# Altium schematic symbol library Microcontrollers.SchLib: 10 symbols
Pins are listed as number, name and electrical type; pins without a type are passive.

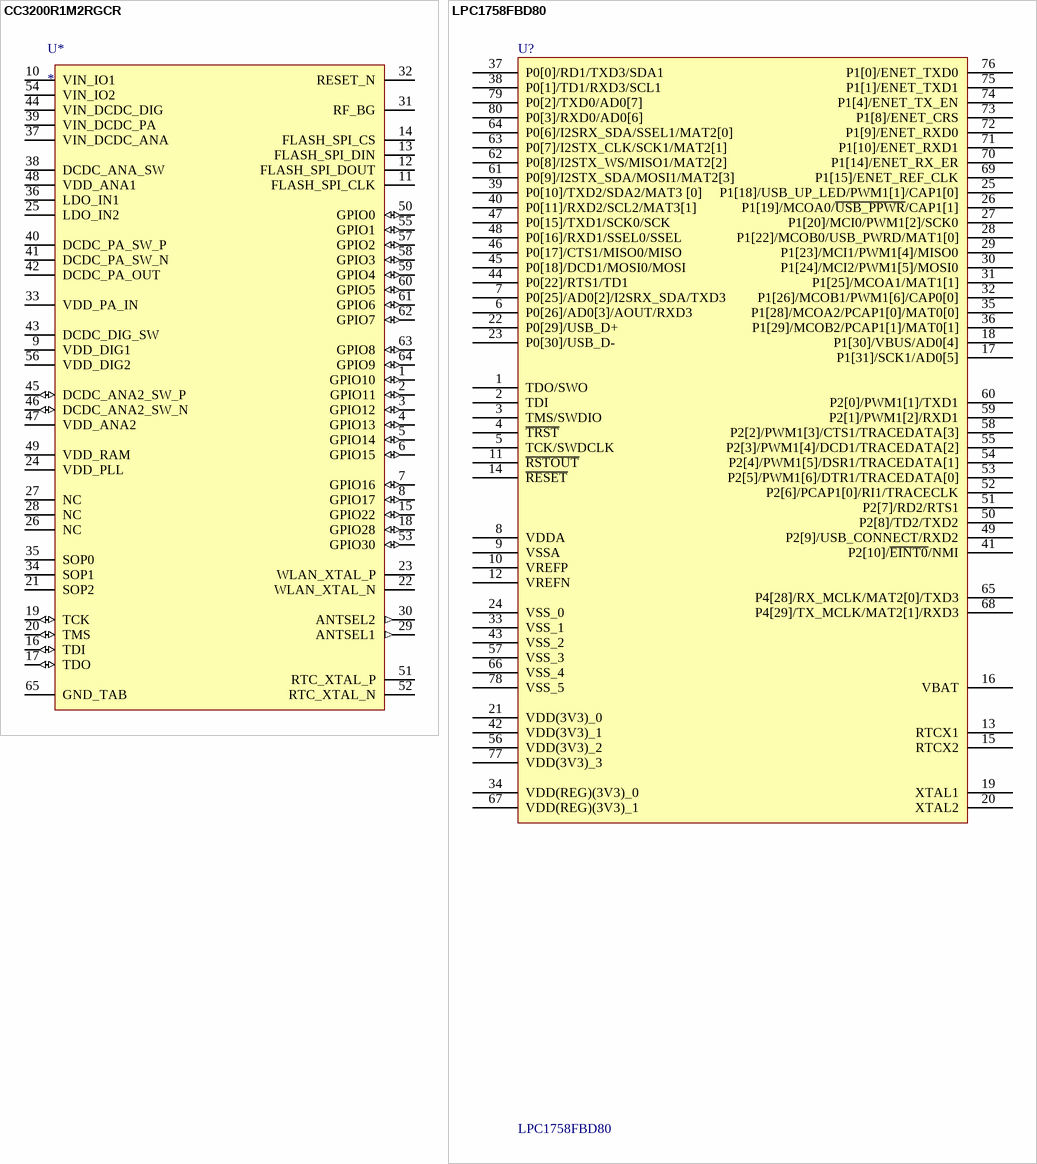
[diagram p0: symbols CC3200R1M2RGCR to LPC1758FBD80]

## CC3200R1M2RGCR
designator U*
CC3200R1M2RGCR
footprint VQFN64
pins: 1 GPIO10 (io), 2 GPIO11 (io), 3 GPIO12 (io), 4 GPIO13 (io), 5 GPIO14 (io), 6 GPIO15 (io), 7 GPIO16 (io), 8 GPIO17 (io), 9 VDD_DIG1 (power), 10 VIN_IO1 (power), 11 FLASH_SPI_CLK, 12 FLASH_SPI_DOUT, 13 FLASH_SPI_DIN, 14 FLASH_SPI_CS, 15 GPIO22 (io), 16 TDI (io), 17 TDO (io), 18 GPIO28 (io), 19 TCK (io), 20 TMS (io), 21 SOP2, 22 WLAN_XTAL_N, 23 WLAN_XTAL_P, 24 VDD_PLL (power), 25 LDO_IN2 (power), 26 NC, 27 NC, 28 NC, 29 ANTSEL1 (out), 30 ANTSEL2 (out), 31 RF_BG, 32 RESET_N, 33 VDD_PA_IN (power), 34 SOP1, 35 SOP0, 36 LDO_IN1 (power), 37 VIN_DCDC_ANA (power), 38 DCDC_ANA_SW (power), 39 VIN_DCDC_PA (power), 40 DCDC_PA_SW_P (power), 41 DCDC_PA_SW_N (power), 42 DCDC_PA_OUT (power), 43 DCDC_DIG_SW (power), 44 VIN_DCDC_DIG (power), 45 DCDC_ANA2_SW_P (io), 46 DCDC_ANA2_SW_N (io), 47 VDD_ANA2 (power), 48 VDD_ANA1 (power), 49 VDD_RAM (power), 50 GPIO0 (io), 51 RTC_XTAL_P, 52 RTC_XTAL_N, 53 GPIO30 (io), 54 VIN_IO2 (power), 55 GPIO1 (io), 56 VDD_DIG2 (power), 57 GPIO2 (io), 58 GPIO3 (io), 59 GPIO4 (io), 60 GPIO5 (io), 61 GPIO6 (io), 62 GPIO7 (io), 63 GPIO8 (io), 64 GPIO9 (io), 65 GND_TAB (power)

## LPC1758FBD80
designator U?
ARM Cortex M3,LQFP80 Footprint; Supplier 1: Digi-Key
footprint LQFP80 (12X12X05P)
footprint LPC1758-M2 (LPC1758 Module)
footprint LPC1758-M3 (LPC1758 Module)
pins: 1 TDO/SWO, 2 TDI, 3 TMS/SWDIO, 4 ~{TRST}, 5 TCK/SWDCLK, 6 P0[26]/AD0[3]/AOUT/RXD3, 7 P0[25]/AD0[2]/I2SRX_SDA/TXD3, 8 VDDA, 9 VSSA, 10 VREFP, 11 ~{RSTOUT}, 12 VREFN, 13 RTCX1, 14 ~{RESET}, 15 RTCX2, 16 VBAT, 17 P1[31]/SCK1/AD0[5], 18 P1[30]/VBUS/AD0[4], 19 XTAL1, 20 XTAL2, 21 VDD(3V3)_0, 22 P0[29]/USB_D+, 23 P0[30]/USB_D-, 24 VSS_0, 25 P1[18]/USB_UP_LED/PWM1[1]/CAP1[0], 26 P1[19]/MCOA0/~{USB_PPWR}/CAP1[1], 27 P1[20]/MCI0/PWM1[2]/SCK0, 28 P1[22]/MCOB0/USB_PWRD/MAT1[0], 29 P1[23]/MCI1/PWM1[4]/MISO0, 30 P1[24]/MCI2/PWM1[5]/MOSI0, 31 P1[25]/MCOA1/MAT1[1], 32 P1[26]/MCOB1/PWM1[6]/CAP0[0], 33 VSS_1, 34 VDD(REG)(3V3)_0, 35 P1[28]/MCOA2/PCAP1[0]/MAT0[0], 36 P1[29]/MCOB2/PCAP1[1]/MAT0[1], 37 P0[0]/RD1/TXD3/SDA1, 38 P0[1]/TD1/RXD3/SCL1, 39 P0[10]/TXD2/SDA2/MAT3 [0], 40 P0[11]/RXD2/SCL2/MAT3[1], 41 P2[10]/~{EINT0}/NMI, 42 VDD(3V3)_1, 43 VSS_2, 44 P0[22]/RTS1/TD1, 45 P0[18]/DCD1/MOSI0/MOSI, 46 P0[17]/CTS1/MISO0/MISO, 47 P0[15]/TXD1/SCK0/SCK, 48 P0[16]/RXD1/SSEL0/SSEL, 49 P2[9]/USB_CONNECT/RXD2, 50 P2[8]/TD2/TXD2, 51 P2[7]/RD2/RTS1, 52 P2[6]/PCAP1[0]/RI1/TRACECLK, 53 P2[5]/PWM1[6]/DTR1/TRACEDATA[0], 54 P2[4]/PWM1[5]/DSR1/TRACEDATA[1], 55 P2[3]/PWM1[4]/DCD1/TRACEDATA[2], 56 VDD(3V3)_2, 57 VSS_3, 58 P2[2]/PWM1[3]/CTS1/TRACEDATA[3], 59 P2[1]/PWM1[2]/RXD1, 60 P2[0]/PWM1[1]/TXD1, 61 P0[9]/I2STX_SDA/MOSI1/MAT2[3], 62 P0[8]/I2STX_WS/MISO1/MAT2[2], 63 P0[7]/I2STX_CLK/SCK1/MAT2[1], 64 P0[6]/I2SRX_SDA/SSEL1/MAT2[0], 65 P4[28]/RX_MCLK/MAT2[0]/TXD3, 66 VSS_4, 67 VDD(REG)(3V3)_1, 68 P4[29]/TX_MCLK/MAT2[1]/RXD3, 69 P1[15]/ENET_REF_CLK, 70 P1[14]/ENET_RX_ER, 71 P1[10]/ENET_RXD1, 72 P1[9]/ENET_RXD0, 73 P1[8]/ENET_CRS, 74 P1[4]/ENET_TX_EN, 75 P1[1]/ENET_TXD1, 76 P1[0]/ENET_TXD0, 77 VDD(3V3)_3, 78 VSS_5, 79 P0[2]/TXD0/AD0[7], 80 P0[3]/RXD0/AD0[6]

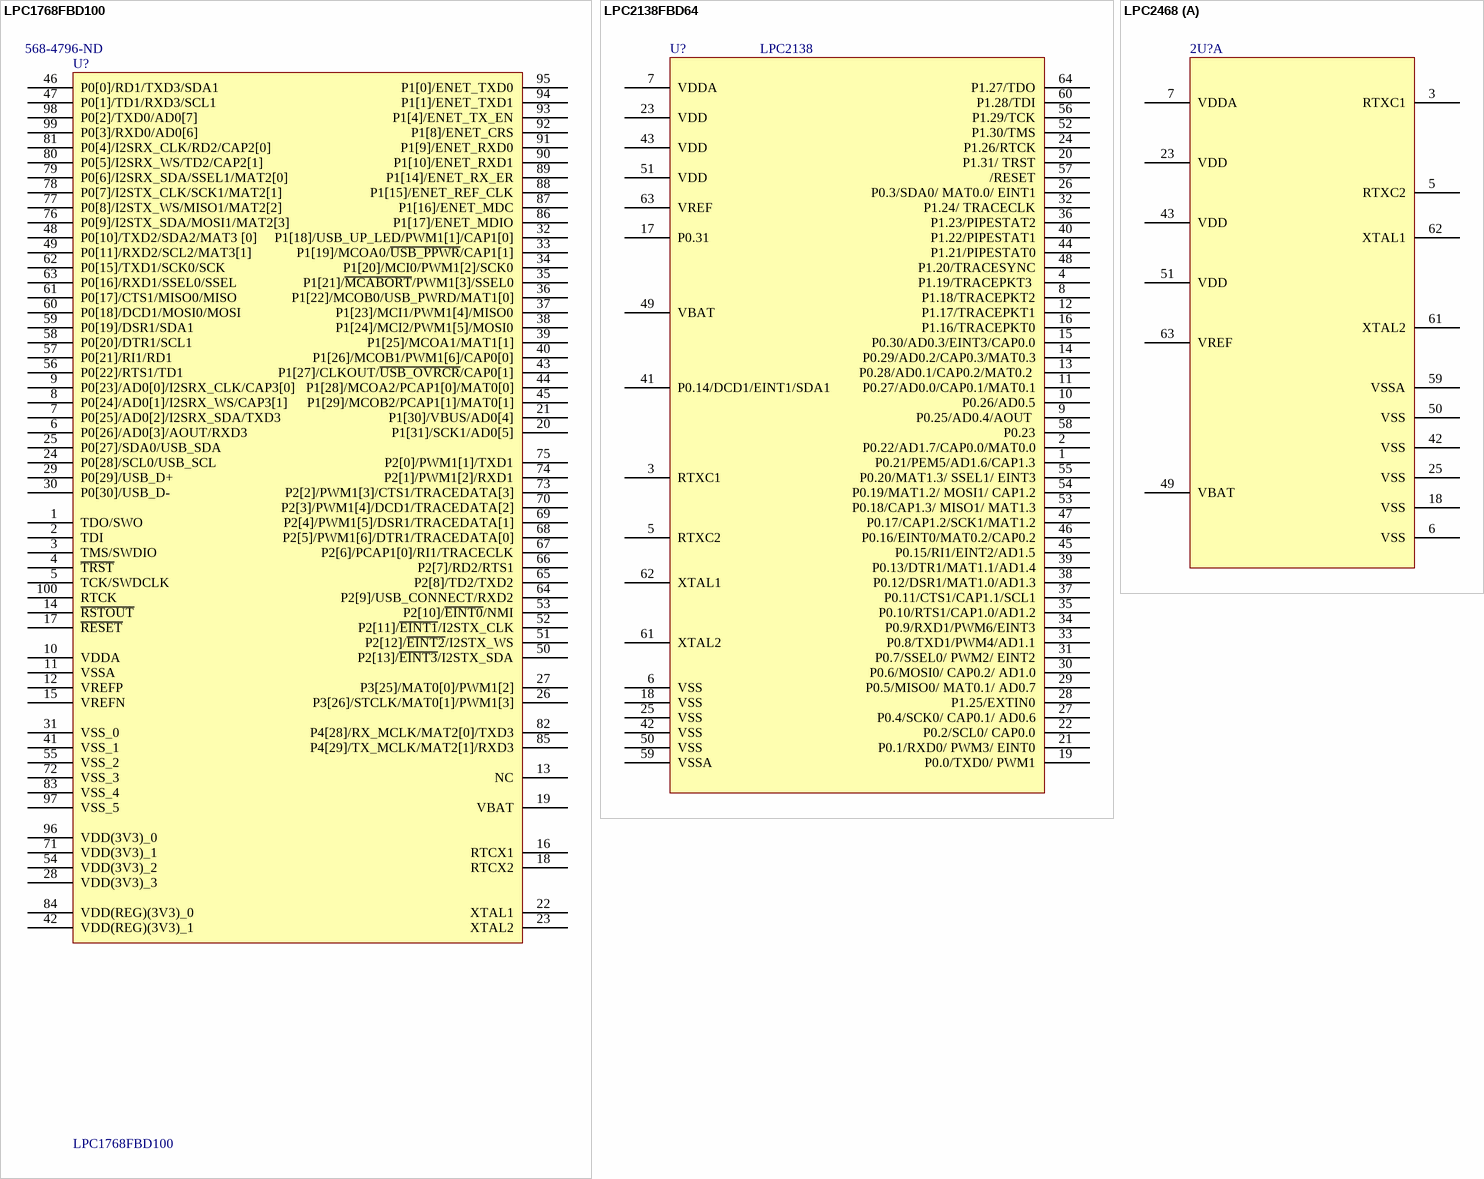
[diagram p1: symbols LPC1768FBD100 to LPC2468]

## LPC1768FBD100
designator U?  Supplier Part Number 1: 568-4796-ND
ARM Cortex M3,LQFP100 Footprint; Supplier 1: Digi-Key
footprint LQFP100 (LQFP100  LPC1768)
pins: 1 TDO/SWO, 2 TDI, 3 TMS/SWDIO, 4 ~{TRST}, 5 TCK/SWDCLK, 6 P0[26]/AD0[3]/AOUT/RXD3, 7 P0[25]/AD0[2]/I2SRX_SDA/TXD3, 8 P0[24]/AD0[1]/I2SRX_WS/CAP3[1], 9 P0[23]/AD0[0]/I2SRX_CLK/CAP3[0], 10 VDDA, 11 VSSA, 12 VREFP, 13 NC, 14 ~{RSTOUT}, 15 VREFN, 16 RTCX1, 17 ~{RESET}, 18 RTCX2, 19 VBAT, 20 P1[31]/SCK1/AD0[5], 21 P1[30]/VBUS/AD0[4], 22 XTAL1, 23 XTAL2, 24 P0[28]/SCL0/USB_SCL, 25 P0[27]/SDA0/USB_SDA, 26 P3[26]/STCLK/MAT0[1]/PWM1[3], 27 P3[25]/MAT0[0]/PWM1[2], 28 VDD(3V3)_3, 29 P0[29]/USB_D+, 30 P0[30]/USB_D-, 31 VSS_0, 32 P1[18]/USB_UP_LED/PWM1[1]/CAP1[0], 33 P1[19]/MCOA0/~{USB_PPWR}/CAP1[1], 34 P1[20]/MCI0/PWM1[2]/SCK0, 35 P1[21]/~{MCABORT}/PWM1[3]/SSEL0, 36 P1[22]/MCOB0/USB_PWRD/MAT1[0], 37 P1[23]/MCI1/PWM1[4]/MISO0, 38 P1[24]/MCI2/PWM1[5]/MOSI0, 39 P1[25]/MCOA1/MAT1[1], 40 P1[26]/MCOB1/PWM1[6]/CAP0[0], 41 VSS_1, 42 VDD(REG)(3V3)_1, 43 P1[27]/CLKOUT/~{USB_OVRCR}/CAP0[1], 44 P1[28]/MCOA2/PCAP1[0]/MAT0[0], 45 P1[29]/MCOB2/PCAP1[1]/MAT0[1], 46 P0[0]/RD1/TXD3/SDA1, 47 P0[1]/TD1/RXD3/SCL1, 48 P0[10]/TXD2/SDA2/MAT3 [0], 49 P0[11]/RXD2/SCL2/MAT3[1], 50 P2[13]/~{EINT3}/I2STX_SDA, 51 P2[12]/~{EINT2}/I2STX_WS, 52 P2[11]/~{EINT1}/I2STX_CLK, 53 P2[10]/~{EINT0}/NMI, 54 VDD(3V3)_2, 55 VSS_2, 56 P0[22]/RTS1/TD1, 57 P0[21]/RI1/RD1, 58 P0[20]/DTR1/SCL1, 59 P0[19]/DSR1/SDA1, 60 P0[18]/DCD1/MOSI0/MOSI, 61 P0[17]/CTS1/MISO0/MISO, 62 P0[15]/TXD1/SCK0/SCK, 63 P0[16]/RXD1/SSEL0/SSEL, 64 P2[9]/USB_CONNECT/RXD2, 65 P2[8]/TD2/TXD2, 66 P2[7]/RD2/RTS1, 67 P2[6]/PCAP1[0]/RI1/TRACECLK, 68 P2[5]/PWM1[6]/DTR1/TRACEDATA[0], 69 P2[4]/PWM1[5]/DSR1/TRACEDATA[1], 70 P2[3]/PWM1[4]/DCD1/TRACEDATA[2], 71 VDD(3V3)_1, 72 VSS_3, 73 P2[2]/PWM1[3]/CTS1/TRACEDATA[3], 74 P2[1]/PWM1[2]/RXD1, 75 P2[0]/PWM1[1]/TXD1, 76 P0[9]/I2STX_SDA/MOSI1/MAT2[3], 77 P0[8]/I2STX_WS/MISO1/MAT2[2], 78 P0[7]/I2STX_CLK/SCK1/MAT2[1], 79 P0[6]/I2SRX_SDA/SSEL1/MAT2[0], 80 P0[5]/I2SRX_WS/TD2/CAP2[1], 81 P0[4]/I2SRX_CLK/RD2/CAP2[0], 82 P4[28]/RX_MCLK/MAT2[0]/TXD3, 83 VSS_4, 84 VDD(REG)(3V3)_0, 85 P4[29]/TX_MCLK/MAT2[1]/RXD3, 86 P1[17]/ENET_MDIO, 87 P1[16]/ENET_MDC, 88 P1[15]/ENET_REF_CLK, 89 P1[14]/ENET_RX_ER, 90 P1[10]/ENET_RXD1, 91 P1[9]/ENET_RXD0, 92 P1[8]/ENET_CRS, 93 P1[4]/ENET_TX_EN, 94 P1[1]/ENET_TXD1, 95 P1[0]/ENET_TXD0, 96 VDD(3V3)_0, 97 VSS_5, 98 P0[2]/TXD0/AD0[7], 99 P0[3]/RXD0/AD0[6], 100 RTCK

## LPC2138FBD64
designator U?, comment LPC2138
pins: 1 P0.21/PEM5/AD1.6/CAP1.3, 2 P0.22/AD1.7/CAP0.0/MAT0.0, 3 RTXC1, 4 P1.19/TRACEPKT3 , 5 RTXC2, 6 VSS, 7 VDDA, 8 P1.18/TRACEPKT2, 9 P0.25/AD0.4/AOUT , 10 P0.26/AD0.5, 11 P0.27/AD0.0/CAP0.1/MAT0.1, 12 P1.17/TRACEPKT1, 13 P0.28/AD0.1/CAP0.2/MAT0.2 , 14 P0.29/AD0.2/CAP0.3/MAT0.3, 15 P0.30/AD0.3/EINT3/CAP0.0, 16 P1.16/TRACEPKT0, 17 P0.31, 18 VSS, 19 P0.0/TXD0/ PWM1, 20 P1.31/ TRST, 21 P0.1/RXD0/ PWM3/ EINT0, 22 P0.2/SCL0/ CAP0.0, 23 VDD, 24 P1.26/RTCK, 25 VSS, 26 P0.3/SDA0/ MAT0.0/ EINT1, 27 P0.4/SCK0/ CAP0.1/ AD0.6, 28 P1.25/EXTIN0, 29 P0.5/MISO0/ MAT0.1/ AD0.7, 30 P0.6/MOSI0/ CAP0.2/ AD1.0, 31 P0.7/SSEL0/ PWM2/ EINT2, 32 P1.24/ TRACECLK, 33 P0.8/TXD1/PWM4/AD1.1, 34 P0.9/RXD1/PWM6/EINT3, 35 P0.10/RTS1/CAP1.0/AD1.2, 36 P1.23/PIPESTAT2, 37 P0.11/CTS1/CAP1.1/SCL1, 38 P0.12/DSR1/MAT1.0/AD1.3, 39 P0.13/DTR1/MAT1.1/AD1.4, 40 P1.22/PIPESTAT1, 41 P0.14/DCD1/EINT1/SDA1, 42 VSS, 43 VDD, 44 P1.21/PIPESTAT0, 45 P0.15/RI1/EINT2/AD1.5, 46 P0.16/EINT0/MAT0.2/CAP0.2, 47 P0.17/CAP1.2/SCK1/MAT1.2, 48 P1.20/TRACESYNC, 49 VBAT, 50 VSS, 51 VDD, 52 P1.30/TMS, 53 P0.18/CAP1.3/ MISO1/ MAT1.3, 54 P0.19/MAT1.2/ MOSI1/ CAP1.2, 55 P0.20/MAT1.3/ SSEL1/ EINT3, 56 P1.29/TCK, 57 /RESET, 58 P0.23, 59 VSSA, 60 P1.28/TDI, 61 XTAL2, 62 XTAL1, 63 VREF, 64 P1.27/TDO

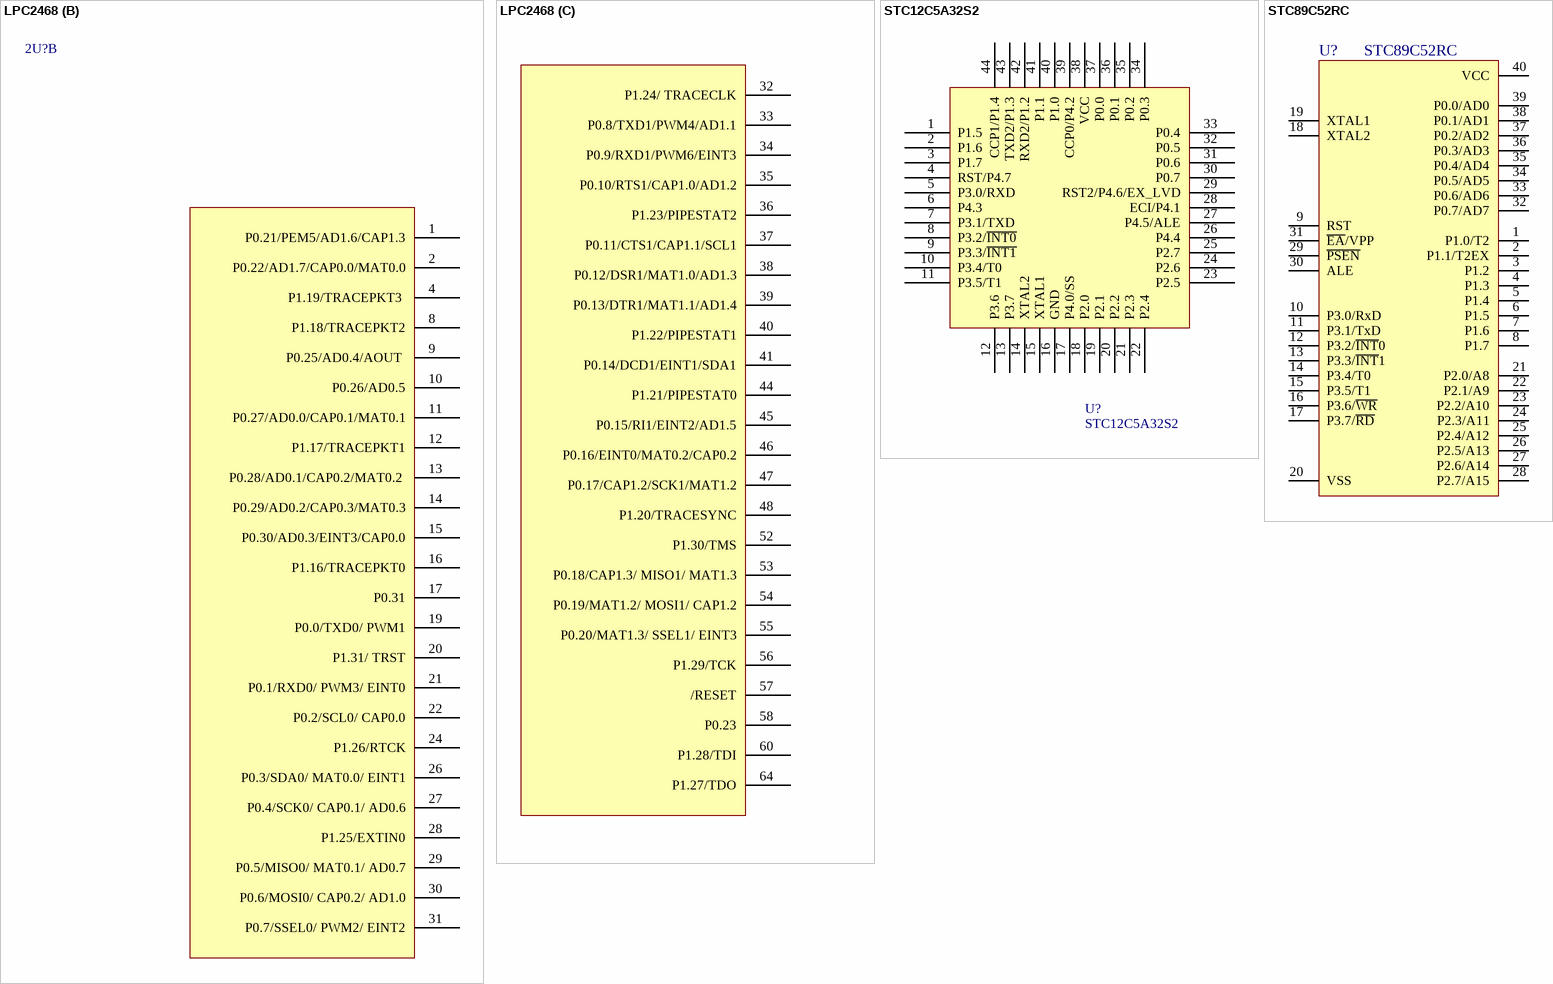
[diagram p2: symbols LPC2468 to STC89C52RC]

## LPC2468
designator 2U?, comment LPC2138  (value not drawn)
part A pins: 3 RTXC1, 5 RTXC2, 6 VSS, 7 VDDA, 18 VSS, 23 VDD, 25 VSS, 42 VSS, 43 VDD, 49 VBAT, 50 VSS, 51 VDD, 59 VSSA, 61 XTAL2, 62 XTAL1, 63 VREF
part B pins: 1 P0.21/PEM5/AD1.6/CAP1.3, 2 P0.22/AD1.7/CAP0.0/MAT0.0, 4 P1.19/TRACEPKT3 , 8 P1.18/TRACEPKT2, 9 P0.25/AD0.4/AOUT , 10 P0.26/AD0.5, 11 P0.27/AD0.0/CAP0.1/MAT0.1, 12 P1.17/TRACEPKT1, 13 P0.28/AD0.1/CAP0.2/MAT0.2 , 14 P0.29/AD0.2/CAP0.3/MAT0.3, 15 P0.30/AD0.3/EINT3/CAP0.0, 16 P1.16/TRACEPKT0, 17 P0.31, 19 P0.0/TXD0/ PWM1, 20 P1.31/ TRST, 21 P0.1/RXD0/ PWM3/ EINT0, 22 P0.2/SCL0/ CAP0.0, 24 P1.26/RTCK, 26 P0.3/SDA0/ MAT0.0/ EINT1, 27 P0.4/SCK0/ CAP0.1/ AD0.6, 28 P1.25/EXTIN0, 29 P0.5/MISO0/ MAT0.1/ AD0.7, 30 P0.6/MOSI0/ CAP0.2/ AD1.0, 31 P0.7/SSEL0/ PWM2/ EINT2
part C pins: 32 P1.24/ TRACECLK, 33 P0.8/TXD1/PWM4/AD1.1, 34 P0.9/RXD1/PWM6/EINT3, 35 P0.10/RTS1/CAP1.0/AD1.2, 36 P1.23/PIPESTAT2, 37 P0.11/CTS1/CAP1.1/SCL1, 38 P0.12/DSR1/MAT1.0/AD1.3, 39 P0.13/DTR1/MAT1.1/AD1.4, 40 P1.22/PIPESTAT1, 41 P0.14/DCD1/EINT1/SDA1, 44 P1.21/PIPESTAT0, 45 P0.15/RI1/EINT2/AD1.5, 46 P0.16/EINT0/MAT0.2/CAP0.2, 47 P0.17/CAP1.2/SCK1/MAT1.2, 48 P1.20/TRACESYNC, 52 P1.30/TMS, 53 P0.18/CAP1.3/ MISO1/ MAT1.3, 54 P0.19/MAT1.2/ MOSI1/ CAP1.2, 55 P0.20/MAT1.3/ SSEL1/ EINT3, 56 P1.29/TCK, 57 /RESET, 58 P0.23, 60 P1.28/TDI, 64 P1.27/TDO

## STC12C5A32S2
designator U?
footprint QFP44
pins: 1 P1.5, 2 P1.6, 3 P1.7, 4 RST/P4.7, 5 P3.0/RXD, 6 P4.3, 7 P3.1/TXD, 8 P3.2/~{INT0}, 9 P3.3/~{INT1}, 10 P3.4/T0, 11 P3.5/T1, 12 P3.6, 13 P3.7, 14 XTAL2, 15 XTAL1, 16 GND, 17 P4.0/SS, 18 P2.0, 19 P2.1, 20 P2.2, 21 P2.3, 22 P2.4, 23 P2.5, 24 P2.6, 25 P2.7, 26 P4.4, 27 P4.5/ALE, 28 ECI/P4.1, 29 RST2/P4.6/EX_LVD, 30 P0.7, 31 P0.6, 32 P0.5, 33 P0.4, 34 P0.3, 35 P0.2, 36 P0.1, 37 P0.0, 38 VCC, 39 CCP0/P4.2, 40 P1.0, 41 P1.1, 42 RXD2/P1.2, 43 TXD2/P1.3, 44 CCP1/P1.4

## STC89C52RC
designator U?
80C51 8-Bit Flash Microcontroller Family, 8 kB Flash; Published: 21-May-2003; DatasheetVersion: 5-Jun-2002; PackageVersion: Aug-2000; PackageReference: SOT129-1; Publisher: Altium Limited; PackageDescription: DIP, Plastic; 40 Leads; Row Spacing 15.24 mm; Pitch 2.54 mm; Code_JEDEC: MO-015; ComponentLink1Description: Manufacturer Link; ComponentLink1URL: http://www-us2.semiconductors.philips.com/; ComponentLink2Description: Datasheet; ComponentLink2URL: http://www.semiconductors.philips.com/acrobat/datasheets/P89C5XX2_2.pdf
footprint PDIP40
pins: 1 P1.0/T2, 2 P1.1/T2EX, 3 P1.2, 4 P1.3, 5 P1.4, 6 P1.5, 7 P1.6, 8 P1.7, 9 RST, 10 P3.0/RxD, 11 P3.1/TxD, 12 P3.2/~{INT}0, 13 P3.3/~{INT}1, 14 P3.4/T0, 15 P3.5/T1, 16 P3.6/~{WR}, 17 P3.7/~{RD}, 18 XTAL2, 19 XTAL1, 20 VSS (power), 21 P2.0/A8, 22 P2.1/A9, 23 P2.2/A10, 24 P2.3/A11, 25 P2.4/A12, 26 P2.5/A13, 27 P2.6/A14, 28 P2.7/A15, 29 ~{PSEN}, 30 ALE, 31 ~{EA}/VPP, 32 P0.7/AD7, 33 P0.6/AD6, 34 P0.5/AD5, 35 P0.4/AD4, 36 P0.3/AD3, 37 P0.2/AD2, 38 P0.1/AD1, 39 P0.0/AD0, 40 VCC (power)
2 alternate drawings of the same symbol

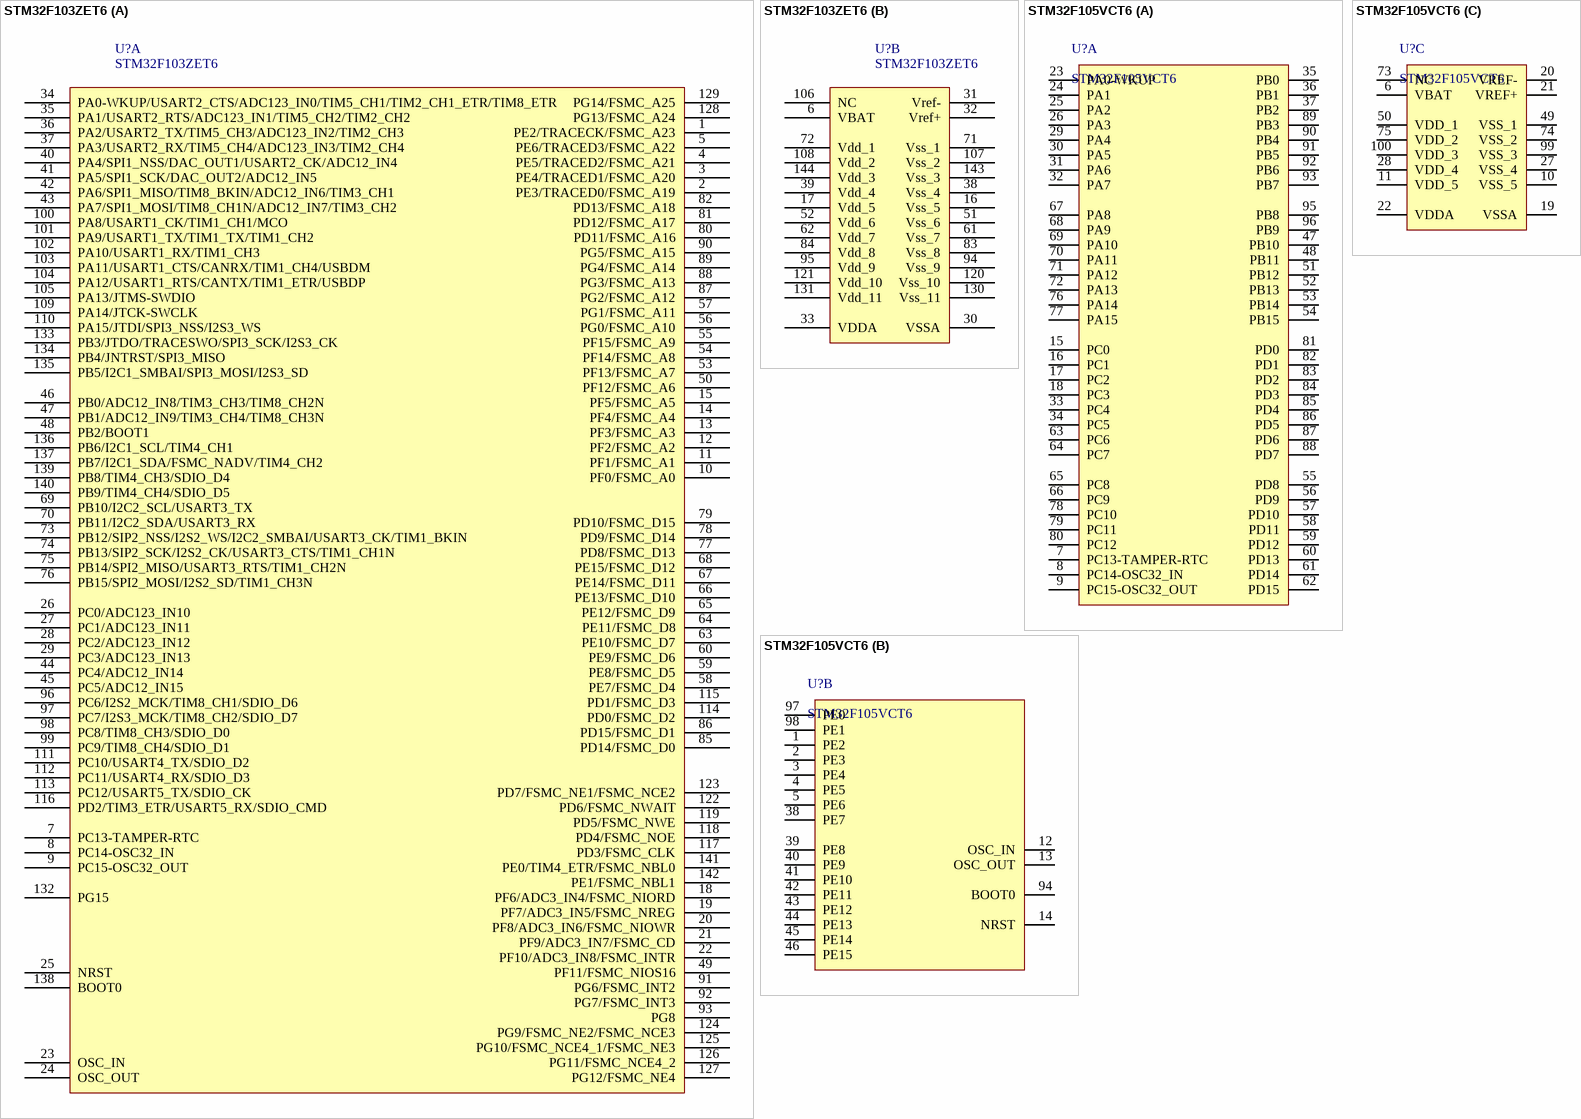
[diagram p3: symbols STM32F103ZET6 to STM32F105VCT6]

## STM32F103ZET6
designator U?
footprint LQFP144
footprint TQFP144_N (Thin QFP, 144-Leads, Body 20x20mm, Pitch 0.5mm, IPC Medium Density)
part A pins: 1 PE2/TRACECK/FSMC_A23, 2 PE3/TRACED0/FSMC_A19, 3 PE4/TRACED1/FSMC_A20, 4 PE5/TRACED2/FSMC_A21, 5 PE6/TRACED3/FSMC_A22, 7 PC13-TAMPER-RTC, 8 PC14-OSC32_IN, 9 PC15-OSC32_OUT, 10 PF0/FSMC_A0, 11 PF1/FSMC_A1, 12 PF2/FSMC_A2, 13 PF3/FSMC_A3, 14 PF4/FSMC_A4, 15 PF5/FSMC_A5, 18 PF6/ADC3_IN4/FSMC_NIORD, 19 PF7/ADC3_IN5/FSMC_NREG, 20 PF8/ADC3_IN6/FSMC_NIOWR, 21 PF9/ADC3_IN7/FSMC_CD, 22 PF10/ADC3_IN8/FSMC_INTR, 23 OSC_IN, 24 OSC_OUT, 25 NRST, 26 PC0/ADC123_IN10, 27 PC1/ADC123_IN11, 28 PC2/ADC123_IN12, 29 PC3/ADC123_IN13, 34 PA0-WKUP/USART2_CTS/ADC123_IN0/TIM5_CH1/TIM2_CH1_ETR/TIM8_ETR, 35 PA1/USART2_RTS/ADC123_IN1/TIM5_CH2/TIM2_CH2, 36 PA2/USART2_TX/TIM5_CH3/ADC123_IN2/TIM2_CH3, 37 PA3/USART2_RX/TIM5_CH4/ADC123_IN3/TIM2_CH4, 40 PA4/SPI1_NSS/DAC_OUT1/USART2_CK/ADC12_IN4, 41 PA5/SPI1_SCK/DAC_OUT2/ADC12_IN5, 42 PA6/SPI1_MISO/TIM8_BKIN/ADC12_IN6/TIM3_CH1, 43 PA7/SPI1_MOSI/TIM8_CH1N/ADC12_IN7/TIM3_CH2, 44 PC4/ADC12_IN14, 45 PC5/ADC12_IN15, 46 PB0/ADC12_IN8/TIM3_CH3/TIM8_CH2N, 47 PB1/ADC12_IN9/TIM3_CH4/TIM8_CH3N, 48 PB2/BOOT1, 49 PF11/FSMC_NIOS16, 50 PF12/FSMC_A6, 53 PF13/FSMC_A7, 54 PF14/FSMC_A8, 55 PF15/FSMC_A9, 56 PG0/FSMC_A10, 57 PG1/FSMC_A11, 58 PE7/FSMC_D4, 59 PE8/FSMC_D5, 60 PE9/FSMC_D6, 63 PE10/FSMC_D7, 64 PE11/FSMC_D8, 65 PE12/FSMC_D9, 66 PE13/FSMC_D10, 67 PE14/FSMC_D11, 68 PE15/FSMC_D12, 69 PB10/I2C2_SCL/USART3_TX, 70 PB11/I2C2_SDA/USART3_RX, 73 PB12/SIP2_NSS/I2S2_WS/I2C2_SMBAI/USART3_CK/TIM1_BKIN, 74 PB13/SIP2_SCK/I2S2_CK/USART3_CTS/TIM1_CH1N, 75 PB14/SPI2_MISO/USART3_RTS/TIM1_CH2N, 76 PB15/SPI2_MOSI/I2S2_SD/TIM1_CH3N, 77 PD8/FSMC_D13, 78 PD9/FSMC_D14, 79 PD10/FSMC_D15, 80 PD11/FSMC_A16, 81 PD12/FSMC_A17, 82 PD13/FSMC_A18, 85 PD14/FSMC_D0, 86 PD15/FSMC_D1, 87 PG2/FSMC_A12, 88 PG3/FSMC_A13, 89 PG4/FSMC_A14, 90 PG5/FSMC_A15, 91 PG6/FSMC_INT2, 92 PG7/FSMC_INT3, 93 PG8, 96 PC6/I2S2_MCK/TIM8_CH1/SDIO_D6, 97 PC7/I2S3_MCK/TIM8_CH2/SDIO_D7, 98 PC8/TIM8_CH3/SDIO_D0, 99 PC9/TIM8_CH4/SDIO_D1, 100 PA8/USART1_CK/TIM1_CH1/MCO, 101 PA9/USART1_TX/TIM1_TX/TIM1_CH2, 102 PA10/USART1_RX/TIM1_CH3, 103 PA11/USART1_CTS/CANRX/TIM1_CH4/USBDM, 104 PA12/USART1_RTS/CANTX/TIM1_ETR/USBDP, 105 PA13/JTMS-SWDIO, 109 PA14/JTCK-SWCLK, 110 PA15/JTDI/SPI3_NSS/I2S3_WS, 111 PC10/USART4_TX/SDIO_D2, 112 PC11/USART4_RX/SDIO_D3, 113 PC12/USART5_TX/SDIO_CK, 114 PD0/FSMC_D2, 115 PD1/FSMC_D3, 116 PD2/TIM3_ETR/USART5_RX/SDIO_CMD, 117 PD3/FSMC_CLK, 118 PD4/FSMC_NOE, 119 PD5/FSMC_NWE, 122 PD6/FSMC_NWAIT, 123 PD7/FSMC_NE1/FSMC_NCE2, 124 PG9/FSMC_NE2/FSMC_NCE3, 125 PG10/FSMC_NCE4_1/FSMC_NE3, 126 PG11/FSMC_NCE4_2, 127 PG12/FSMC_NE4, 128 PG13/FSMC_A24, 129 PG14/FSMC_A25, 132 PG15, 133 PB3/JTDO/TRACESWO/SPI3_SCK/I2S3_CK, 134 PB4/JNTRST/SPI3_MISO, 135 PB5/I2C1_SMBAI/SPI3_MOSI/I2S3_SD, 136 PB6/I2C1_SCL/TIM4_CH1, 137 PB7/I2C1_SDA/FSMC_NADV/TIM4_CH2, 138 BOOT0, 139 PB8/TIM4_CH3/SDIO_D4, 140 PB9/TIM4_CH4/SDIO_D5, 141 PE0/TIM4_ETR/FSMC_NBL0, 142 PE1/FSMC_NBL1
part B pins: 6 VBAT, 16 Vss_5, 17 Vdd_5, 30 VSSA, 31 Vref-, 32 Vref+, 33 VDDA, 38 Vss_4, 39 Vdd_4, 51 Vss_6, 52 Vdd_6, 61 Vss_7, 62 Vdd_7, 71 Vss_1, 72 Vdd_1, 83 Vss_8, 84 Vdd_8, 94 Vss_9, 95 Vdd_9, 106 NC, 107 Vss_2, 108 Vdd_2, 120 Vss_10, 121 Vdd_10, 130 Vss_11, 131 Vdd_11, 143 Vss_3, 144 Vdd_3

## STM32F105VCT6
designator U?
STM32 ARM-based 32-bit MCU Connectivity Line with 256 kB Flash, 64 kB Internal RAM, -40 to +85Temperature, 100-Pin LQFP, Tray; DatasheetVersion: rev5.0, May-2010; PackageVersion: rev13, Apr-2011; PackageReference: LQFP100; PackageDescription: 100-Pin Low-Profile Quad Flat Pack, 14 x 14 mm Body, 0.5 mm Pitch (LQFP100); ComponentLink1Description: Manufacturer URL; ComponentLink1URL: http://www.st.com/; ComponentLink2Description: STM32F105/107 Datasheet; ComponentLink2URL: http://www.st.com/internet/com/TECHNICAL_RESOURCES/TECHNICAL_LITERATURE/DATASHEET/CD00220364.pdf; ComponentLink3Description: STM32 Family Web Page; ComponentLink3URL: www.st.com/stm32
footprint LQFP100 (LQFP100  LPC1768)
part A pins: 7 PC13-TAMPER-RTC, 8 PC14-OSC32_IN, 9 PC15-OSC32_OUT, 15 PC0, 16 PC1, 17 PC2, 18 PC3, 23 PA0-WKUP, 24 PA1, 25 PA2, 26 PA3, 29 PA4, 30 PA5, 31 PA6, 32 PA7, 33 PC4, 34 PC5, 35 PB0, 36 PB1, 37 PB2, 47 PB10, 48 PB11, 51 PB12, 52 PB13, 53 PB14, 54 PB15, 55 PD8, 56 PD9, 57 PD10, 58 PD11, 59 PD12, 60 PD13, 61 PD14, 62 PD15, 63 PC6, 64 PC7, 65 PC8, 66 PC9, 67 PA8, 68 PA9, 69 PA10, 70 PA11, 71 PA12, 72 PA13, 76 PA14, 77 PA15, 78 PC10, 79 PC11, 80 PC12, 81 PD0, 82 PD1, 83 PD2, 84 PD3, 85 PD4, 86 PD5, 87 PD6, 88 PD7, 89 PB3, 90 PB4, 91 PB5, 92 PB6, 93 PB7, 95 PB8, 96 PB9
part B pins: 1 PE2, 2 PE3, 3 PE4, 4 PE5, 5 PE6, 12 OSC_IN, 13 OSC_OUT, 14 NRST, 38 PE7, 39 PE8, 40 PE9, 41 PE10, 42 PE11, 43 PE12, 44 PE13, 45 PE14, 46 PE15, 94 BOOT0, 97 PE0, 98 PE1
part C pins: 6 VBAT (power), 10 VSS_5 (power), 11 VDD_5 (power), 19 VSSA (power), 20 VREF- (power), 21 VREF+ (power), 22 VDDA (power), 27 VSS_4 (power), 28 VDD_4 (power), 49 VSS_1 (power), 50 VDD_1 (power), 73 NC, 74 VSS_2 (power), 75 VDD_2 (power), 99 VSS_3 (power), 100 VDD_3 (power)

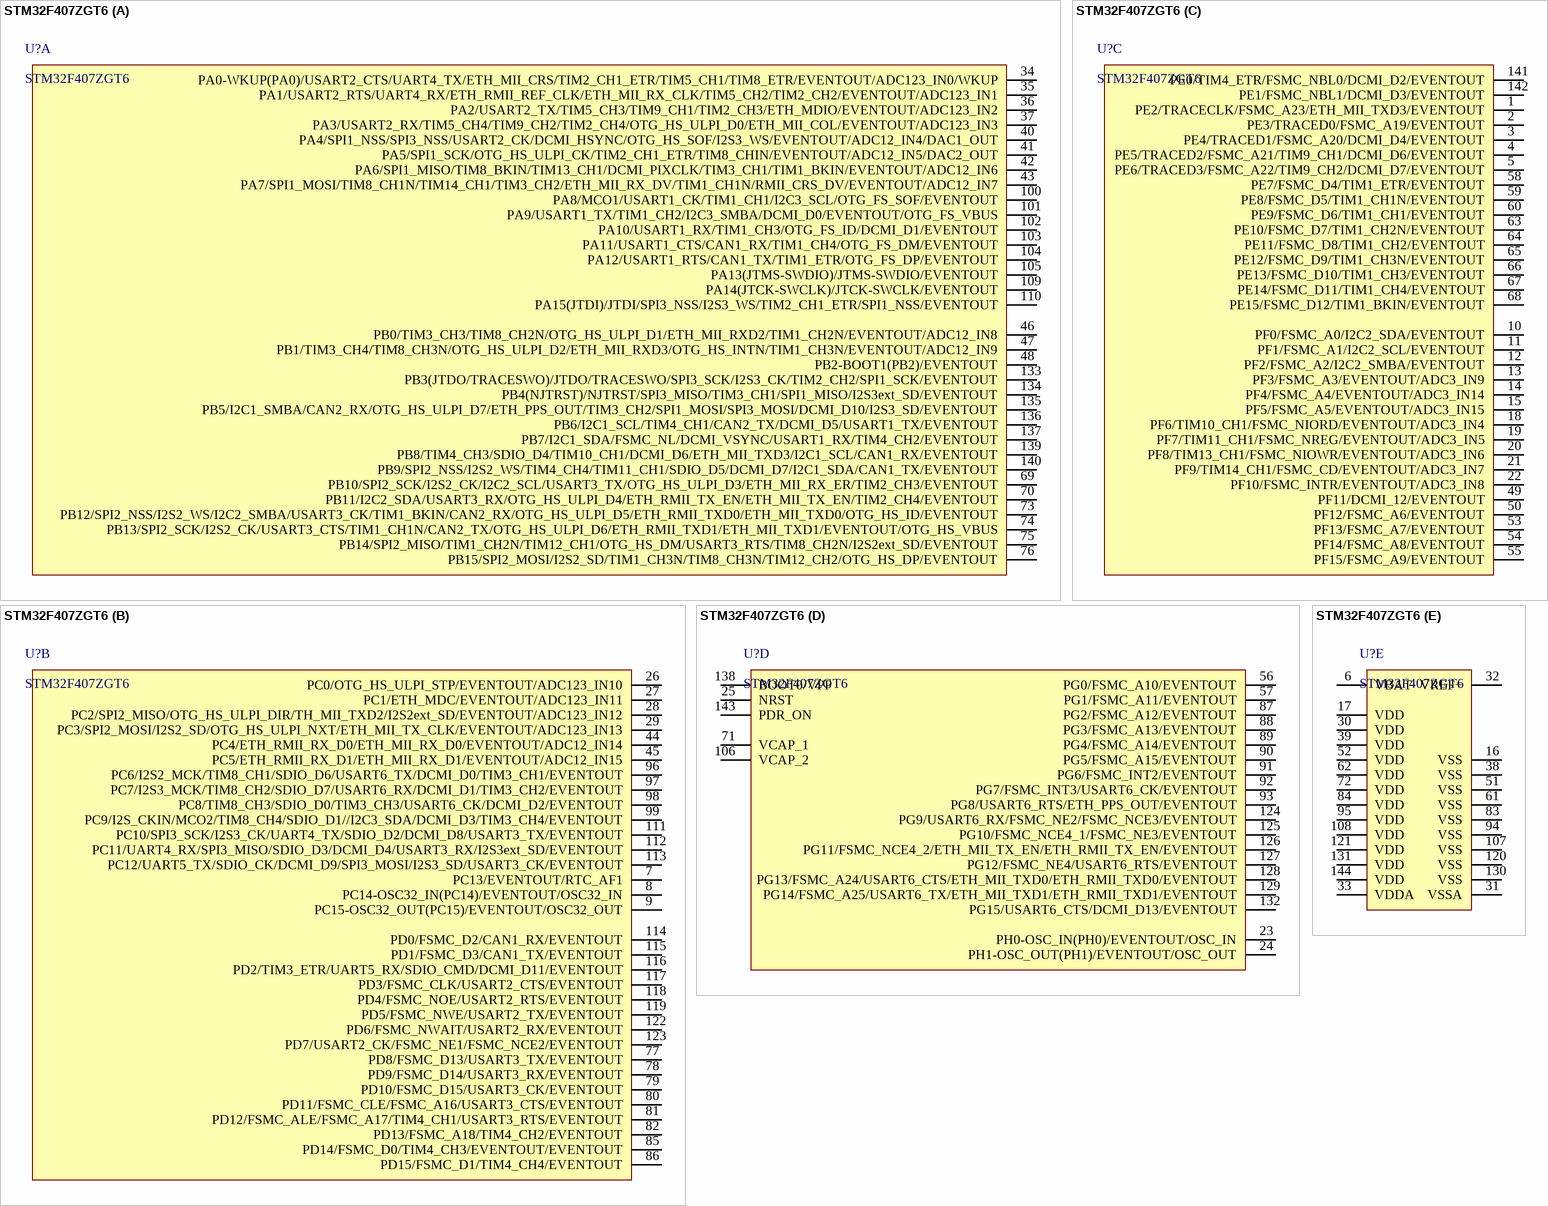
[diagram p4: symbol STM32F407ZGT6]

## STM32F407ZGT6
designator U?
ARM Cortex-M4 32b MCU+FPU, 210DMIP, 1024 kB Flash, 192+4 kB RAM, Camera, 114 I/Os, 144-pin LQFP, -40 to +85癈, Tray; Internal RAM: 192kB; Operating Frequency (Processor Speed): 168MHz; A/D Converter: 24x12-bit; D/A Converter: 2x12-bit; 16-bit Timers (IC/OC/PWM): 12x16-bit(24/24/30); 32-bit Timer (IC/OC/PWM): 2x32-bit (8/8/8); Other Timer Functions: 2xWDG, RTC, 24-bit down counter; Serial Interface: 3xSPI/2xI2S/2xI2C/3xUSART(IrDa, ISO7816)/3xUART/2xUSB OTG FS/HS, 2xCAN/Ethernet MAC10/100, SDIO; DatasheetVersion: rev2, Jan-2012; PackageVersion: 2012; PackageReference: TQFP144; PackageDescription: 144-Pin Low Profile Quad Flat Package, 20x20 mm Body, 0.5 mm Pitch; ComponentLink1Description: Manufacturer URL; ComponentLink1URL: http://www.st.com/; ComponentLink2Description: STM32F405/7 Datasheet; ComponentLink2URL: http://www.st.com/internet/com/TECHNICAL_RESOURCES/TECHNICAL_LITERATURE/DATASHEET/DM00037051.pdf; ComponentLink3Description: STM32F4 Web Page; ComponentLink3URL: http://www.st.com/internet/mcu/subclass/1521.jsp
footprint TQFP144_L (Thin QFP, 144-Leads, Body 20x20mm, Pitch 0.5mm, IPC High Density)
footprint TQFP144_M (Thin QFP, 144-Leads, Body 20x20mm, Pitch 0.5mm, IPC Low Density)
footprint TQFP144_N (Thin QFP, 144-Leads, Body 20x20mm, Pitch 0.5mm, IPC Medium Density)
footprint TQFP144_V (Thin QFP, 144-Leads, Body 20x20mm, Pitch 0.5mm, ST Recommended)
part A pins: 34 PA0-WKUP(PA0)/USART2_CTS/UART4_TX/ETH_MII_CRS/TIM2_CH1_ETR/TIM5_CH1/TIM8_ETR/EVENTOUT/ADC123_IN0/WKUP, 35 PA1/USART2_RTS/UART4_RX/ETH_RMII_REF_CLK/ETH_MII_RX_CLK/TIM5_CH2/TIM2_CH2/EVENTOUT/ADC123_IN1, 36 PA2/USART2_TX/TIM5_CH3/TIM9_CH1/TIM2_CH3/ETH_MDIO/EVENTOUT/ADC123_IN2, 37 PA3/USART2_RX/TIM5_CH4/TIM9_CH2/TIM2_CH4/OTG_HS_ULPI_D0/ETH_MII_COL/EVENTOUT/ADC123_IN3, 40 PA4/SPI1_NSS/SPI3_NSS/USART2_CK/DCMI_HSYNC/OTG_HS_SOF/I2S3_WS/EVENTOUT/ADC12_IN4/DAC1_OUT, 41 PA5/SPI1_SCK/OTG_HS_ULPI_CK/TIM2_CH1_ETR/TIM8_CHIN/EVENTOUT/ADC12_IN5/DAC2_OUT, 42 PA6/SPI1_MISO/TIM8_BKIN/TIM13_CH1/DCMI_PIXCLK/TIM3_CH1/TIM1_BKIN/EVENTOUT/ADC12_IN6, 43 PA7/SPI1_MOSI/TIM8_CH1N/TIM14_CH1/TIM3_CH2/ETH_MII_RX_DV/TIM1_CH1N/RMII_CRS_DV/EVENTOUT/ADC12_IN7, 46 PB0/TIM3_CH3/TIM8_CH2N/OTG_HS_ULPI_D1/ETH_MII_RXD2/TIM1_CH2N/EVENTOUT/ADC12_IN8, 47 PB1/TIM3_CH4/TIM8_CH3N/OTG_HS_ULPI_D2/ETH_MII_RXD3/OTG_HS_INTN/TIM1_CH3N/EVENTOUT/ADC12_IN9, 48 PB2-BOOT1(PB2)/EVENTOUT, 69 PB10/SPI2_SCK/I2S2_CK/I2C2_SCL/USART3_TX/OTG_HS_ULPI_D3/ETH_MII_RX_ER/TIM2_CH3/EVENTOUT, 70 PB11/I2C2_SDA/USART3_RX/OTG_HS_ULPI_D4/ETH_RMII_TX_EN/ETH_MII_TX_EN/TIM2_CH4/EVENTOUT, 73 PB12/SPI2_NSS/I2S2_WS/I2C2_SMBA/USART3_CK/TIM1_BKIN/CAN2_RX/OTG_HS_ULPI_D5/ETH_RMII_TXD0/ETH_MII_TXD0/OTG_HS_ID/EVENTOUT, 74 PB13/SPI2_SCK/I2S2_CK/USART3_CTS/TIM1_CH1N/CAN2_TX/OTG_HS_ULPI_D6/ETH_RMII_TXD1/ETH_MII_TXD1/EVENTOUT/OTG_HS_VBUS, 75 PB14/SPI2_MISO/TIM1_CH2N/TIM12_CH1/OTG_HS_DM/USART3_RTS/TIM8_CH2N/I2S2ext_SD/EVENTOUT, 76 PB15/SPI2_MOSI/I2S2_SD/TIM1_CH3N/TIM8_CH3N/TIM12_CH2/OTG_HS_DP/EVENTOUT, 100 PA8/MCO1/USART1_CK/TIM1_CH1/I2C3_SCL/OTG_FS_SOF/EVENTOUT, 101 PA9/USART1_TX/TIM1_CH2/I2C3_SMBA/DCMI_D0/EVENTOUT/OTG_FS_VBUS, 102 PA10/USART1_RX/TIM1_CH3/OTG_FS_ID/DCMI_D1/EVENTOUT, 103 PA11/USART1_CTS/CAN1_RX/TIM1_CH4/OTG_FS_DM/EVENTOUT, 104 PA12/USART1_RTS/CAN1_TX/TIM1_ETR/OTG_FS_DP/EVENTOUT, 105 PA13(JTMS-SWDIO)/JTMS-SWDIO/EVENTOUT, 109 PA14(JTCK-SWCLK)/JTCK-SWCLK/EVENTOUT, 110 PA15(JTDI)/JTDI/SPI3_NSS/I2S3_WS/TIM2_CH1_ETR/SPI1_NSS/EVENTOUT, 133 PB3(JTDO/TRACESWO)/JTDO/TRACESWO/SPI3_SCK/I2S3_CK/TIM2_CH2/SPI1_SCK/EVENTOUT, 134 PB4(NJTRST)/NJTRST/SPI3_MISO/TIM3_CH1/SPI1_MISO/I2S3ext_SD/EVENTOUT, 135 PB5/I2C1_SMBA/CAN2_RX/OTG_HS_ULPI_D7/ETH_PPS_OUT/TIM3_CH2/SPI1_MOSI/SPI3_MOSI/DCMI_D10/I2S3_SD/EVENTOUT, 136 PB6/I2C1_SCL/TIM4_CH1/CAN2_TX/DCMI_D5/USART1_TX/EVENTOUT, 137 PB7/I2C1_SDA/FSMC_NL/DCMI_VSYNC/USART1_RX/TIM4_CH2/EVENTOUT, 139 PB8/TIM4_CH3/SDIO_D4/TIM10_CH1/DCMI_D6/ETH_MII_TXD3/I2C1_SCL/CAN1_RX/EVENTOUT, 140 PB9/SPI2_NSS/I2S2_WS/TIM4_CH4/TIM11_CH1/SDIO_D5/DCMI_D7/I2C1_SDA/CAN1_TX/EVENTOUT
part B pins: 7 PC13/EVENTOUT/RTC_AF1, 8 PC14-OSC32_IN(PC14)/EVENTOUT/OSC32_IN, 9 PC15-OSC32_OUT(PC15)/EVENTOUT/OSC32_OUT, 26 PC0/OTG_HS_ULPI_STP/EVENTOUT/ADC123_IN10, 27 PC1/ETH_MDC/EVENTOUT/ADC123_IN11, 28 PC2/SPI2_MISO/OTG_HS_ULPI_DIR/TH_MII_TXD2/I2S2ext_SD/EVENTOUT/ADC123_IN12, 29 PC3/SPI2_MOSI/I2S2_SD/OTG_HS_ULPI_NXT/ETH_MII_TX_CLK/EVENTOUT/ADC123_IN13, 44 PC4/ETH_RMII_RX_D0/ETH_MII_RX_D0/EVENTOUT/ADC12_IN14, 45 PC5/ETH_RMII_RX_D1/ETH_MII_RX_D1/EVENTOUT/ADC12_IN15, 77 PD8/FSMC_D13/USART3_TX/EVENTOUT, 78 PD9/FSMC_D14/USART3_RX/EVENTOUT, 79 PD10/FSMC_D15/USART3_CK/EVENTOUT, 80 PD11/FSMC_CLE/FSMC_A16/USART3_CTS/EVENTOUT, 81 PD12/FSMC_ALE/FSMC_A17/TIM4_CH1/USART3_RTS/EVENTOUT, 82 PD13/FSMC_A18/TIM4_CH2/EVENTOUT, 85 PD14/FSMC_D0/TIM4_CH3/EVENTOUT/EVENTOUT, 86 PD15/FSMC_D1/TIM4_CH4/EVENTOUT, 96 PC6/I2S2_MCK/TIM8_CH1/SDIO_D6/USART6_TX/DCMI_D0/TIM3_CH1/EVENTOUT, 97 PC7/I2S3_MCK/TIM8_CH2/SDIO_D7/USART6_RX/DCMI_D1/TIM3_CH2/EVENTOUT, 98 PC8/TIM8_CH3/SDIO_D0/TIM3_CH3/USART6_CK/DCMI_D2/EVENTOUT, 99 PC9/I2S_CKIN/MCO2/TIM8_CH4/SDIO_D1//I2C3_SDA/DCMI_D3/TIM3_CH4/EVENTOUT, 111 PC10/SPI3_SCK/I2S3_CK/UART4_TX/SDIO_D2/DCMI_D8/USART3_TX/EVENTOUT, 112 PC11/UART4_RX/SPI3_MISO/SDIO_D3/DCMI_D4/USART3_RX/I2S3ext_SD/EVENTOUT, 113 PC12/UART5_TX/SDIO_CK/DCMI_D9/SPI3_MOSI/I2S3_SD/USART3_CK/EVENTOUT, 114 PD0/FSMC_D2/CAN1_RX/EVENTOUT, 115 PD1/FSMC_D3/CAN1_TX/EVENTOUT, 116 PD2/TIM3_ETR/UART5_RX/SDIO_CMD/DCMI_D11/EVENTOUT, 117 PD3/FSMC_CLK/USART2_CTS/EVENTOUT, 118 PD4/FSMC_NOE/USART2_RTS/EVENTOUT, 119 PD5/FSMC_NWE/USART2_TX/EVENTOUT, 122 PD6/FSMC_NWAIT/USART2_RX/EVENTOUT, 123 PD7/USART2_CK/FSMC_NE1/FSMC_NCE2/EVENTOUT
part C pins: 1 PE2/TRACECLK/FSMC_A23/ETH_MII_TXD3/EVENTOUT, 2 PE3/TRACED0/FSMC_A19/EVENTOUT, 3 PE4/TRACED1/FSMC_A20/DCMI_D4/EVENTOUT, 4 PE5/TRACED2/FSMC_A21/TIM9_CH1/DCMI_D6/EVENTOUT, 5 PE6/TRACED3/FSMC_A22/TIM9_CH2/DCMI_D7/EVENTOUT, 10 PF0/FSMC_A0/I2C2_SDA/EVENTOUT, 11 PF1/FSMC_A1/I2C2_SCL/EVENTOUT, 12 PF2/FSMC_A2/I2C2_SMBA/EVENTOUT, 13 PF3/FSMC_A3/EVENTOUT/ADC3_IN9, 14 PF4/FSMC_A4/EVENTOUT/ADC3_IN14, 15 PF5/FSMC_A5/EVENTOUT/ADC3_IN15, 18 PF6/TIM10_CH1/FSMC_NIORD/EVENTOUT/ADC3_IN4, 19 PF7/TIM11_CH1/FSMC_NREG/EVENTOUT/ADC3_IN5, 20 PF8/TIM13_CH1/FSMC_NIOWR/EVENTOUT/ADC3_IN6, 21 PF9/TIM14_CH1/FSMC_CD/EVENTOUT/ADC3_IN7, 22 PF10/FSMC_INTR/EVENTOUT/ADC3_IN8, 49 PF11/DCMI_12/EVENTOUT, 50 PF12/FSMC_A6/EVENTOUT, 53 PF13/FSMC_A7/EVENTOUT, 54 PF14/FSMC_A8/EVENTOUT, 55 PF15/FSMC_A9/EVENTOUT, 58 PE7/FSMC_D4/TIM1_ETR/EVENTOUT, 59 PE8/FSMC_D5/TIM1_CH1N/EVENTOUT, 60 PE9/FSMC_D6/TIM1_CH1/EVENTOUT, 63 PE10/FSMC_D7/TIM1_CH2N/EVENTOUT, 64 PE11/FSMC_D8/TIM1_CH2/EVENTOUT, 65 PE12/FSMC_D9/TIM1_CH3N/EVENTOUT, 66 PE13/FSMC_D10/TIM1_CH3/EVENTOUT, 67 PE14/FSMC_D11/TIM1_CH4/EVENTOUT, 68 PE15/FSMC_D12/TIM1_BKIN/EVENTOUT, 141 PE0/TIM4_ETR/FSMC_NBL0/DCMI_D2/EVENTOUT, 142 PE1/FSMC_NBL1/DCMI_D3/EVENTOUT
part D pins: 23 PH0-OSC_IN(PH0)/EVENTOUT/OSC_IN, 24 PH1-OSC_OUT(PH1)/EVENTOUT/OSC_OUT, 25 NRST, 56 PG0/FSMC_A10/EVENTOUT, 57 PG1/FSMC_A11/EVENTOUT, 71 VCAP_1 (power), 87 PG2/FSMC_A12/EVENTOUT, 88 PG3/FSMC_A13/EVENTOUT, 89 PG4/FSMC_A14/EVENTOUT, 90 PG5/FSMC_A15/EVENTOUT, 91 PG6/FSMC_INT2/EVENTOUT, 92 PG7/FSMC_INT3/USART6_CK/EVENTOUT, 93 PG8/USART6_RTS/ETH_PPS_OUT/EVENTOUT, 106 VCAP_2 (power), 124 PG9/USART6_RX/FSMC_NE2/FSMC_NCE3/EVENTOUT, 125 PG10/FSMC_NCE4_1/FSMC_NE3/EVENTOUT, 126 PG11/FSMC_NCE4_2/ETH_MII_TX_EN/ETH_RMII_TX_EN/EVENTOUT, 127 PG12/FSMC_NE4/USART6_RTS/EVENTOUT, 128 PG13/FSMC_A24/USART6_CTS/ETH_MII_TXD0/ETH_RMII_TXD0/EVENTOUT, 129 PG14/FSMC_A25/USART6_TX/ETH_MII_TXD1/ETH_RMII_TXD1/EVENTOUT, 132 PG15/USART6_CTS/DCMI_D13/EVENTOUT, 138 BOOT0/VPP, 143 PDR_ON
part E pins: 6 VBAT (power), 16 VSS (power), 17 VDD (power), 30 VDD (power), 31 VSSA (power), 32 VREF+ (power), 33 VDDA (power), 38 VSS (power), 39 VDD (power), 51 VSS (power), 52 VDD (power), 61 VSS (power), 62 VDD (power), 72 VDD (power), 83 VSS (power), 84 VDD (power), 94 VSS (power), 95 VDD (power), 107 VSS (power), 108 VDD (power), 120 VSS (power), 121 VDD (power), 130 VSS (power), 131 VDD (power), 144 VDD (power)